# EAGLE library part POLOLU_LOGIC_SHIFTER (library byu_pressure_control)
Logic Level Shifter, 4-Channel, Bidirectional Pololu Link <https://www.pololu.com/product/2595> This tiny logic level shifter features four bi-directional channels, allowing for safe and easy communication between devices operating at different logic levels. It can convert signals as low as 1.5 V to as high as 18 V and vice versa, and its four channels are enough to support most common bidirectional and unidirectional digital interfaces, including I²C, SPI, and asynchronous TTL serial.
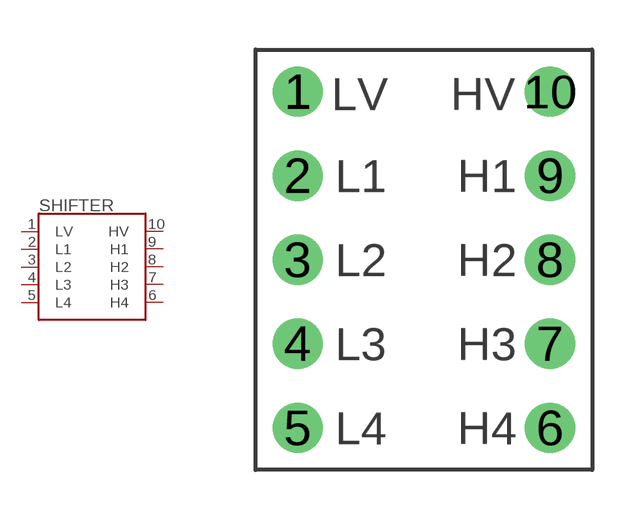
[diagram p2: symbol with the pads of POLOLU_LOGIC_SHIFTER; footprint POLOLU_LOGIC_SHIFTER]

Designator prefix SHIFTER

## POLOLU_LOGIC_SHIFTERPOLOLU  [POLOLU_LOGIC_SHIFTER]
1  LV  pwr
2  L1
3  L2
4  L3
5  L4
6  H4
7  H3
8  H2
9  H1
10  HV  pwr

## Footprint POLOLU_LOGIC_SHIFTER (pad centres in mm)
Pololu Logic Level Shifter Dimensions <https://www.pololu.com/file/0J753/ls01a-logic-level-shifter-dimensions.pdf> Small size: 0.4″ × 0.5″ × 0.08″ (13 mm × 10 mm × 2 mm) Breadboard-compatible pin spacing
drill 1.016: 1 1.27,11.43; 2 1.27,8.89; 3 1.27,6.35; 4 1.27,3.81; 5 1.27,1.27; 6 8.89,1.27; 7 8.89,3.81; 8 8.89,6.35; 9 8.89,8.89; 10 8.89,11.43